# Altium integrated library ST Microcontroller 8-Bit.IntLib: 1326 symbols (part 6 of 45)
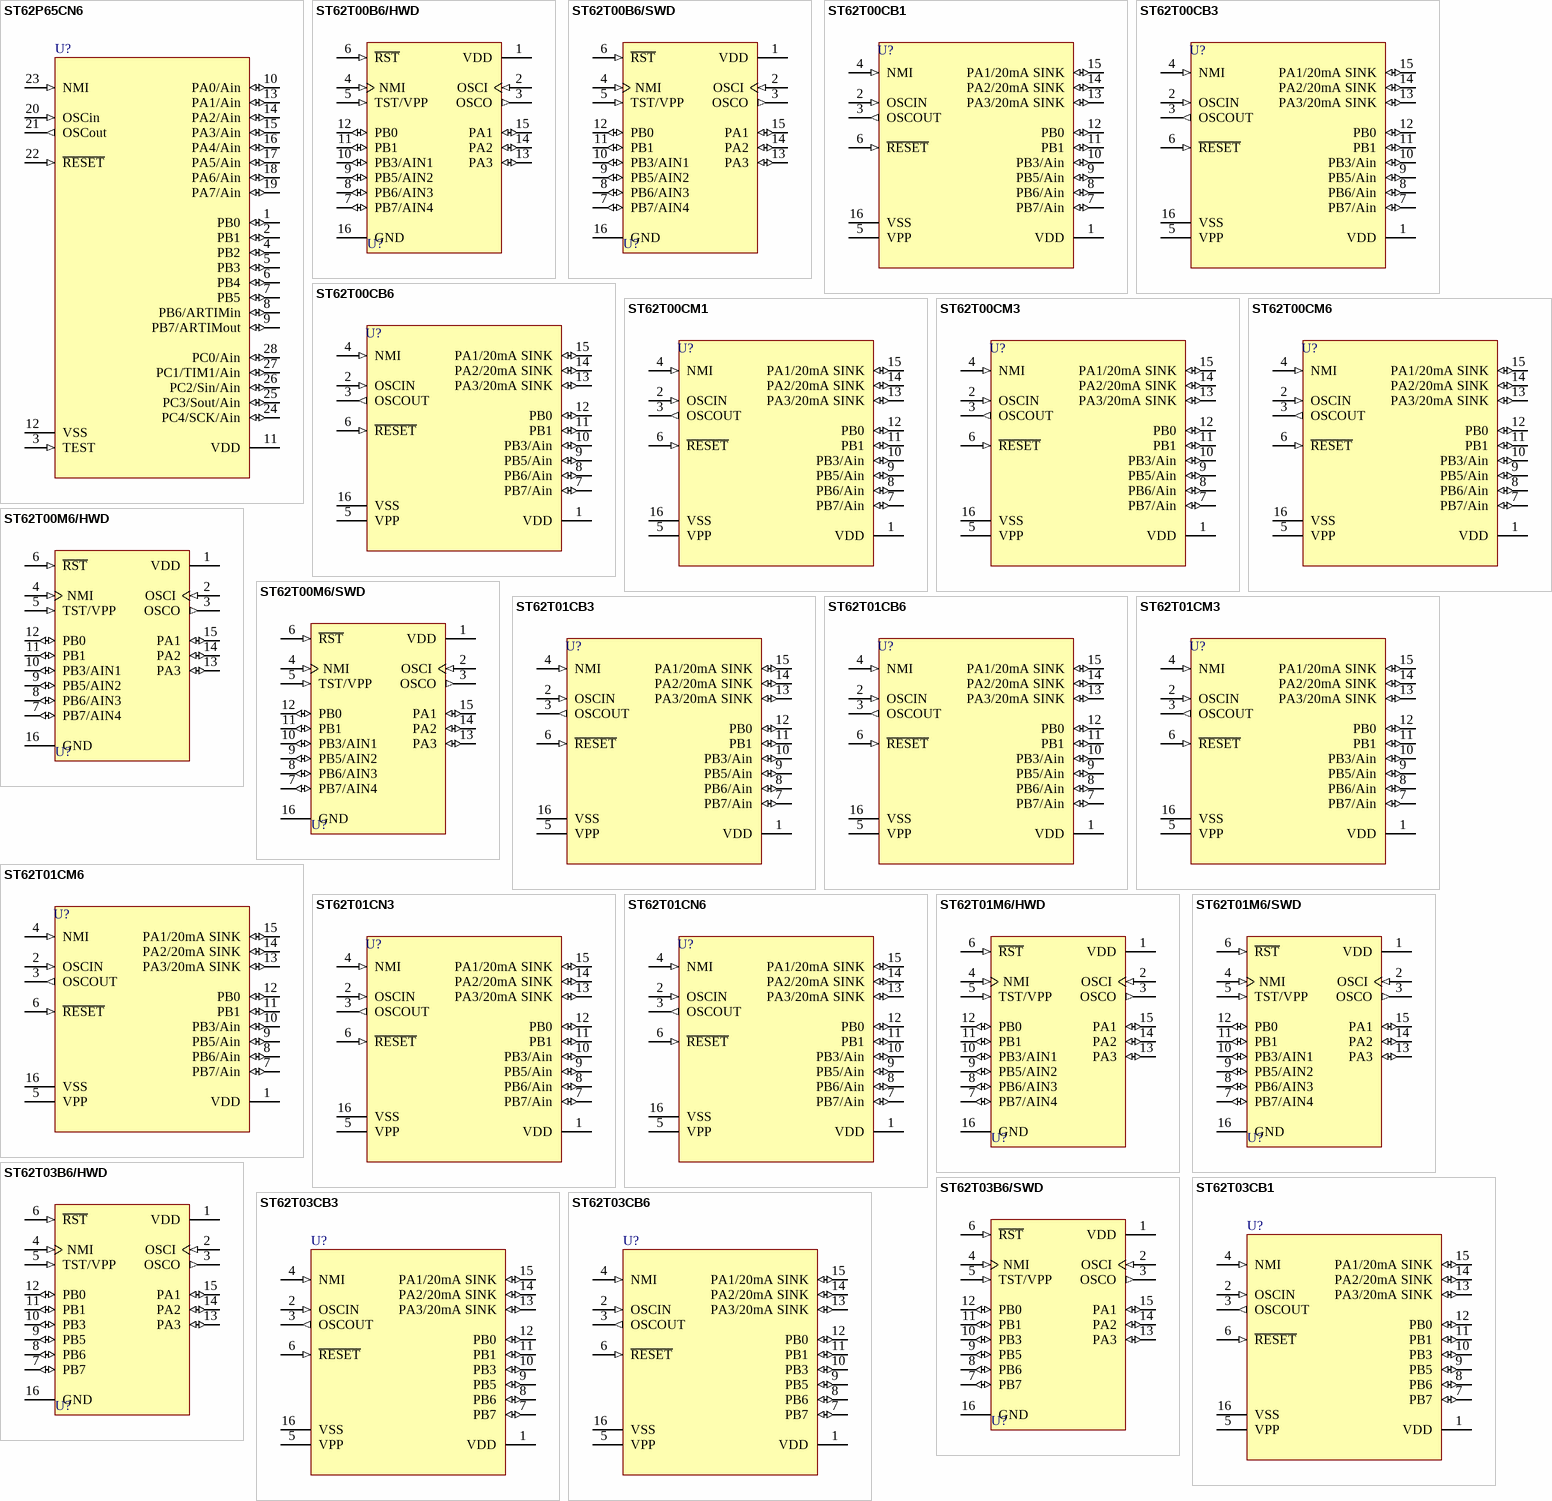
[diagram p172: symbols ST62P65CN6 to ST62T03CB6]

## ST62T00CB6
designator U?
8-Bit OTP MCU with A/D Converter, Two Timers, Oscillator Safeguard and Safe Reset, 16-Pin PDIP, Industrial; Published: 26-May-2004; LatestRevisionDate: 06-Jun-2005; LatestRevisionNote: Stylized 3D Model Added.; DatasheetVersion: rev3.3, Oct-2003; PackageVersion: Dec-2003; PackageReference: PDIP16; Publisher: Altium Limited; PackageDescription: DIP; 16 Leads; Row Spacing 7.62 mm; Pitch 2.54 mm; ComponentLink1Description: Manufacturer Link; ComponentLink1URL: http://www.st.com/; ComponentLink2Description: Datasheet; ComponentLink2URL: http://www.st.com/stonline/products/literature/ds/4563/st6200c.pdf
footprint PDIP16 (DIP; 16 Leads; Row Spacing 7.62 mm; Pitch 2.54 mm)
3D model PDIP16 (DIP; 16 Leads; Row Spacing 7.62 mm; Pitch 2.54 mm)
pins: 1 VDD (power), 2 OSCIN (in), 3 OSCOUT (out), 4 NMI (in), 5 VPP (power), 6 ~{RESET} (in), 7 PB7/Ain (io), 8 PB6/Ain (io), 9 PB5/Ain (io), 10 PB3/Ain (io), 11 PB1 (io), 12 PB0 (io), 13 PA3/20mA SINK (io), 14 PA2/20mA SINK (io), 15 PA1/20mA SINK (io), 16 VSS (power)

## ST62T00CM1
designator U?
8-Bit OTP MCU with A/D Converter, Two Timers, Oscillator Safeguard and Safe Reset, 16-Pin SOIC, Standard; Published: 26-May-2004; LatestRevisionDate: 13-Apr-2006; LatestRevisionNote: IPC-7351 Footprint Added.; DatasheetVersion: rev3.3, Oct-2003; PackageVersion: Apr-1998; PackageReference: SO16W; Publisher: Altium Limited; PackageDescription: 16-Pin Small Outline Integrated Circuit 1.27 mm Pitch; Code_JEDEC: MS-013-AA; Code_IPC: SOIC127P1030-16; ComponentLink1Description: Manufacturer Link; ComponentLink1URL: http://www.st.com/; ComponentLink2Description: Datasheet; ComponentLink2URL: http://www.st.com/stonline/products/literature/ds/4563/st6200c.pdf
footprint SO16W_N (SOIC, 16-Leads, Body 10.3x7.5mm, Pitch 1.27mm, IPC Medium Density)
footprint SO16W_L (SOIC, 16-Leads, Body 10.3x7.5mm, Pitch 1.27mm, IPC High Density)
footprint SO16W_M (SOIC, 16-Leads, Body 10.3x7.5mm, Pitch 1.27mm, IPC Low Density)
3D model SO16W (16-Pin Small Outline Integrated Circuit 1.27 mm Pitch)
pins: 1 VDD (power), 2 OSCIN (in), 3 OSCOUT (out), 4 NMI (in), 5 VPP (power), 6 ~{RESET} (in), 7 PB7/Ain (io), 8 PB6/Ain (io), 9 PB5/Ain (io), 10 PB3/Ain (io), 11 PB1 (io), 12 PB0 (io), 13 PA3/20mA SINK (io), 14 PA2/20mA SINK (io), 15 PA1/20mA SINK (io), 16 VSS (power)

## ST62T00CM3
designator U?
8-Bit OTP MCU with A/D Converter, Two Timers, Oscillator Safeguard and Safe Reset, 16-Pin SOIC, Automotive; Published: 26-May-2004; LatestRevisionDate: 13-Apr-2006; LatestRevisionNote: IPC-7351 Footprint Added.; DatasheetVersion: rev3.3, Oct-2003; PackageVersion: Apr-1998; PackageReference: SO16W; Publisher: Altium Limited; PackageDescription: 16-Pin Small Outline Integrated Circuit 1.27 mm Pitch; Code_JEDEC: MS-013-AA; Code_IPC: SOIC127P1030-16; ComponentLink1Description: Manufacturer Link; ComponentLink1URL: http://www.st.com/; ComponentLink2Description: Datasheet; ComponentLink2URL: http://www.st.com/stonline/products/literature/ds/4563/st6200c.pdf
footprint SO16W_N (SOIC, 16-Leads, Body 10.3x7.5mm, Pitch 1.27mm, IPC Medium Density)
footprint SO16W_L (SOIC, 16-Leads, Body 10.3x7.5mm, Pitch 1.27mm, IPC High Density)
footprint SO16W_M (SOIC, 16-Leads, Body 10.3x7.5mm, Pitch 1.27mm, IPC Low Density)
3D model SO16W (16-Pin Small Outline Integrated Circuit 1.27 mm Pitch)
pins: 1 VDD (power), 2 OSCIN (in), 3 OSCOUT (out), 4 NMI (in), 5 VPP (power), 6 ~{RESET} (in), 7 PB7/Ain (io), 8 PB6/Ain (io), 9 PB5/Ain (io), 10 PB3/Ain (io), 11 PB1 (io), 12 PB0 (io), 13 PA3/20mA SINK (io), 14 PA2/20mA SINK (io), 15 PA1/20mA SINK (io), 16 VSS (power)

## ST62T00CM6
designator U?
8-Bit OTP MCU with A/D Converter, Two Timers, Oscillator Safeguard and Safe Reset, 16-Pin SOIC, Industrial; Published: 26-May-2004; LatestRevisionDate: 13-Apr-2006; LatestRevisionNote: IPC-7351 Footprint Added.; DatasheetVersion: rev3.3, Oct-2003; PackageVersion: Apr-1998; PackageReference: SO16W; Publisher: Altium Limited; PackageDescription: 16-Pin Small Outline Integrated Circuit 1.27 mm Pitch; Code_JEDEC: MS-013-AA; Code_IPC: SOIC127P1030-16; ComponentLink1Description: Manufacturer Link; ComponentLink1URL: http://www.st.com/; ComponentLink2Description: Datasheet; ComponentLink2URL: http://www.st.com/stonline/products/literature/ds/4563/st6200c.pdf
footprint SO16W_N (SOIC, 16-Leads, Body 10.3x7.5mm, Pitch 1.27mm, IPC Medium Density)
footprint SO16W_L (SOIC, 16-Leads, Body 10.3x7.5mm, Pitch 1.27mm, IPC High Density)
footprint SO16W_M (SOIC, 16-Leads, Body 10.3x7.5mm, Pitch 1.27mm, IPC Low Density)
3D model SO16W (16-Pin Small Outline Integrated Circuit 1.27 mm Pitch)
pins: 1 VDD (power), 2 OSCIN (in), 3 OSCOUT (out), 4 NMI (in), 5 VPP (power), 6 ~{RESET} (in), 7 PB7/Ain (io), 8 PB6/Ain (io), 9 PB5/Ain (io), 10 PB3/Ain (io), 11 PB1 (io), 12 PB0 (io), 13 PA3/20mA SINK (io), 14 PA2/20mA SINK (io), 15 PA1/20mA SINK (io), 16 VSS (power)

## ST62T00M6/HWD
designator U?
8-Bit OTP MCU with A/D Converter; Published: 24-Aug-2001; LatestRevisionDate: 13-Apr-2006; LatestRevisionNote: IPC-7351 Footprint Added.; DatasheetVersion: Oct-1996; PackageVersion: Apr-1998; PackageReference: SO16W; Publisher: Altium Limited; PackageDescription: 16-Pin Small Outline Integrated Circuit 1.27 mm Pitch; Code_JEDEC: MS-013-AA; Code_IPC: SOIC127P1030-16; ComponentLink1Description: Manufacturer Link; ComponentLink1URL: http://www.st.com/
footprint SO16W_N (SOIC, 16-Leads, Body 10.3x7.5mm, Pitch 1.27mm, IPC Medium Density)
footprint SO16W_L (SOIC, 16-Leads, Body 10.3x7.5mm, Pitch 1.27mm, IPC High Density)
footprint SO16W_M (SOIC, 16-Leads, Body 10.3x7.5mm, Pitch 1.27mm, IPC Low Density)
3D model SO16W (16-Pin Small Outline Integrated Circuit 1.27 mm Pitch)
pins: 1 VDD (power), 2 OSCI (in), 3 OSCO (out), 4 NMI (in), 5 TST/VPP (in), 6 ~{RST} (in), 7 PB7/AIN4 (io), 8 PB6/AIN3 (io), 9 PB5/AIN2 (io), 10 PB3/AIN1 (io), 11 PB1 (io), 12 PB0 (io), 13 PA3 (io), 14 PA2 (io), 15 PA1 (io), 16 GND (power)

## ST62T00M6/SWD
designator U?
8-Bit OTP MCU with A/D Converter; Published: 24-Aug-2001; LatestRevisionDate: 13-Apr-2006; LatestRevisionNote: IPC-7351 Footprint Added.; DatasheetVersion: Oct-1996; PackageVersion: Apr-1998; PackageReference: SO16W; Publisher: Altium Limited; PackageDescription: 16-Pin Small Outline Integrated Circuit 1.27 mm Pitch; Code_JEDEC: MS-013-AA; Code_IPC: SOIC127P1030-16; ComponentLink1Description: Manufacturer Link; ComponentLink1URL: http://www.st.com/
footprint SO16W_N (SOIC, 16-Leads, Body 10.3x7.5mm, Pitch 1.27mm, IPC Medium Density)
footprint SO16W_L (SOIC, 16-Leads, Body 10.3x7.5mm, Pitch 1.27mm, IPC High Density)
footprint SO16W_M (SOIC, 16-Leads, Body 10.3x7.5mm, Pitch 1.27mm, IPC Low Density)
3D model SO16W (16-Pin Small Outline Integrated Circuit 1.27 mm Pitch)
pins: 1 VDD (power), 2 OSCI (in), 3 OSCO (out), 4 NMI (in), 5 TST/VPP (in), 6 ~{RST} (in), 7 PB7/AIN4 (io), 8 PB6/AIN3 (io), 9 PB5/AIN2 (io), 10 PB3/AIN1 (io), 11 PB1 (io), 12 PB0 (io), 13 PA3 (io), 14 PA2 (io), 15 PA1 (io), 16 GND (power)

## ST62T01CB3
designator U?
8-Bit OTP MCU with A/D Converter, Two Timers, Oscillator Safeguard and Safe Reset, 16-Pin PDIP, Automotive; Published: 26-May-2004; LatestRevisionDate: 06-Jun-2005; LatestRevisionNote: Stylized 3D Model Added.; DatasheetVersion: rev3.3, Oct-2003; PackageVersion: Dec-2003; PackageReference: PDIP16; Publisher: Altium Limited; PackageDescription: DIP; 16 Leads; Row Spacing 7.62 mm; Pitch 2.54 mm; ComponentLink1Description: Manufacturer Link; ComponentLink1URL: http://www.st.com/; ComponentLink2Description: Datasheet; ComponentLink2URL: http://www.st.com/stonline/products/literature/ds/4563/st6201c.pdf
footprint PDIP16 (DIP; 16 Leads; Row Spacing 7.62 mm; Pitch 2.54 mm)
3D model PDIP16 (DIP; 16 Leads; Row Spacing 7.62 mm; Pitch 2.54 mm)
pins: 1 VDD (power), 2 OSCIN (in), 3 OSCOUT (out), 4 NMI (in), 5 VPP (power), 6 ~{RESET} (in), 7 PB7/Ain (io), 8 PB6/Ain (io), 9 PB5/Ain (io), 10 PB3/Ain (io), 11 PB1 (io), 12 PB0 (io), 13 PA3/20mA SINK (io), 14 PA2/20mA SINK (io), 15 PA1/20mA SINK (io), 16 VSS (power)

## ST62T01CB6
designator U?
8-Bit OTP MCU with A/D Converter, Two Timers, Oscillator Safeguard and Safe Reset, 16-Pin PDIP, Industrial; Published: 26-May-2004; LatestRevisionDate: 06-Jun-2005; LatestRevisionNote: Stylized 3D Model Added.; DatasheetVersion: rev3.3, Oct-2003; PackageVersion: Dec-2003; PackageReference: PDIP16; Publisher: Altium Limited; PackageDescription: DIP; 16 Leads; Row Spacing 7.62 mm; Pitch 2.54 mm; ComponentLink1Description: Manufacturer Link; ComponentLink1URL: http://www.st.com/; ComponentLink2Description: Datasheet; ComponentLink2URL: http://www.st.com/stonline/products/literature/ds/4563/st6201c.pdf
footprint PDIP16 (DIP; 16 Leads; Row Spacing 7.62 mm; Pitch 2.54 mm)
3D model PDIP16 (DIP; 16 Leads; Row Spacing 7.62 mm; Pitch 2.54 mm)
pins: 1 VDD (power), 2 OSCIN (in), 3 OSCOUT (out), 4 NMI (in), 5 VPP (power), 6 ~{RESET} (in), 7 PB7/Ain (io), 8 PB6/Ain (io), 9 PB5/Ain (io), 10 PB3/Ain (io), 11 PB1 (io), 12 PB0 (io), 13 PA3/20mA SINK (io), 14 PA2/20mA SINK (io), 15 PA1/20mA SINK (io), 16 VSS (power)

## ST62T01CM3
designator U?
8-Bit OTP MCU with A/D Converter, Two Timers, Oscillator Safeguard and Safe Reset, 16-Pin SOIC, Automotive; Published: 26-May-2004; LatestRevisionDate: 13-Apr-2006; LatestRevisionNote: IPC-7351 Footprint Added.; DatasheetVersion: rev3.3, Oct-2003; PackageVersion: Apr-1998; PackageReference: SO16W; Publisher: Altium Limited; PackageDescription: 16-Pin Small Outline Integrated Circuit 1.27 mm Pitch; Code_JEDEC: MS-013-AA; Code_IPC: SOIC127P1030-16; ComponentLink1Description: Manufacturer Link; ComponentLink1URL: http://www.st.com/; ComponentLink2Description: Datasheet; ComponentLink2URL: http://www.st.com/stonline/products/literature/ds/4563/st6201c.pdf
footprint SO16W_N (SOIC, 16-Leads, Body 10.3x7.5mm, Pitch 1.27mm, IPC Medium Density)
footprint SO16W_L (SOIC, 16-Leads, Body 10.3x7.5mm, Pitch 1.27mm, IPC High Density)
footprint SO16W_M (SOIC, 16-Leads, Body 10.3x7.5mm, Pitch 1.27mm, IPC Low Density)
3D model SO16W (16-Pin Small Outline Integrated Circuit 1.27 mm Pitch)
pins: 1 VDD (power), 2 OSCIN (in), 3 OSCOUT (out), 4 NMI (in), 5 VPP (power), 6 ~{RESET} (in), 7 PB7/Ain (io), 8 PB6/Ain (io), 9 PB5/Ain (io), 10 PB3/Ain (io), 11 PB1 (io), 12 PB0 (io), 13 PA3/20mA SINK (io), 14 PA2/20mA SINK (io), 15 PA1/20mA SINK (io), 16 VSS (power)

## ST62T01CM6
designator U?
8-Bit OTP MCU with A/D Converter, Two Timers, Oscillator Safeguard and Safe Reset, 16-Pin SOIC, Industrial; Published: 26-May-2004; LatestRevisionDate: 13-Apr-2006; LatestRevisionNote: IPC-7351 Footprint Added.; DatasheetVersion: rev3.3, Oct-2003; PackageVersion: Apr-1998; PackageReference: SO16W; Publisher: Altium Limited; PackageDescription: 16-Pin Small Outline Integrated Circuit 1.27 mm Pitch; Code_JEDEC: MS-013-AA; Code_IPC: SOIC127P1030-16; ComponentLink1Description: Manufacturer Link; ComponentLink1URL: http://www.st.com/; ComponentLink2Description: Datasheet; ComponentLink2URL: http://www.st.com/stonline/products/literature/ds/4563/st6201c.pdf
footprint SO16W_N (SOIC, 16-Leads, Body 10.3x7.5mm, Pitch 1.27mm, IPC Medium Density)
footprint SO16W_L (SOIC, 16-Leads, Body 10.3x7.5mm, Pitch 1.27mm, IPC High Density)
footprint SO16W_M (SOIC, 16-Leads, Body 10.3x7.5mm, Pitch 1.27mm, IPC Low Density)
3D model SO16W (16-Pin Small Outline Integrated Circuit 1.27 mm Pitch)
pins: 1 VDD (power), 2 OSCIN (in), 3 OSCOUT (out), 4 NMI (in), 5 VPP (power), 6 ~{RESET} (in), 7 PB7/Ain (io), 8 PB6/Ain (io), 9 PB5/Ain (io), 10 PB3/Ain (io), 11 PB1 (io), 12 PB0 (io), 13 PA3/20mA SINK (io), 14 PA2/20mA SINK (io), 15 PA1/20mA SINK (io), 16 VSS (power)

## ST62T01CN3
designator U?
8-Bit OTP MCU with A/D Converter, Two Timers, Oscillator Safeguard and Safe Reset, 16-Pin SSOP, Automotive; Published: 26-May-2004; LatestRevisionDate: 06-Jun-2005; LatestRevisionNote: Stylized 3D Model Added.; DatasheetVersion: rev3.3, Oct-2003; PackageVersion: Oct-2003; PackageReference: SSOP16; Publisher: Altium Limited; PackageDescription: SSOP, Plastic; 16 Leads; Body Width 5.3 mm; Pitch 0.65 mm; ComponentLink1Description: Manufacturer Link; ComponentLink1URL: http://www.st.com/; ComponentLink2Description: Datasheet; ComponentLink2URL: http://www.st.com/stonline/products/literature/ds/4563/st6201c.pdf
footprint SSOP16 (SSOP, Plastic; 16 Leads; Body Width 5.3 mm; Pitch 0.65 mm)
3D model SSOP16 (SSOP, Plastic; 16 Leads; Body Width 5.3 mm; Pitch 0.65 mm)
pins: 1 VDD (power), 2 OSCIN (in), 3 OSCOUT (out), 4 NMI (in), 5 VPP (power), 6 ~{RESET} (in), 7 PB7/Ain (io), 8 PB6/Ain (io), 9 PB5/Ain (io), 10 PB3/Ain (io), 11 PB1 (io), 12 PB0 (io), 13 PA3/20mA SINK (io), 14 PA2/20mA SINK (io), 15 PA1/20mA SINK (io), 16 VSS (power)

## ST62T01CN6
designator U?
8-Bit OTP MCU with A/D Converter, Two Timers, Oscillator Safeguard and Safe Reset, 16-Pin SSOP, Industrial; Published: 26-May-2004; LatestRevisionDate: 06-Jun-2005; LatestRevisionNote: Stylized 3D Model Added.; DatasheetVersion: rev3.3, Oct-2003; PackageVersion: Oct-2003; PackageReference: SSOP16; Publisher: Altium Limited; PackageDescription: SSOP, Plastic; 16 Leads; Body Width 5.3 mm; Pitch 0.65 mm; ComponentLink1Description: Manufacturer Link; ComponentLink1URL: http://www.st.com/; ComponentLink2Description: Datasheet; ComponentLink2URL: http://www.st.com/stonline/products/literature/ds/4563/st6201c.pdf
footprint SSOP16 (SSOP, Plastic; 16 Leads; Body Width 5.3 mm; Pitch 0.65 mm)
3D model SSOP16 (SSOP, Plastic; 16 Leads; Body Width 5.3 mm; Pitch 0.65 mm)
pins: 1 VDD (power), 2 OSCIN (in), 3 OSCOUT (out), 4 NMI (in), 5 VPP (power), 6 ~{RESET} (in), 7 PB7/Ain (io), 8 PB6/Ain (io), 9 PB5/Ain (io), 10 PB3/Ain (io), 11 PB1 (io), 12 PB0 (io), 13 PA3/20mA SINK (io), 14 PA2/20mA SINK (io), 15 PA1/20mA SINK (io), 16 VSS (power)

## ST62T01M6/HWD
designator U?
8-Bit OTP MCU with A/D Converter; Published: 24-Aug-2001; LatestRevisionDate: 13-Apr-2006; LatestRevisionNote: IPC-7351 Footprint Added.; DatasheetVersion: Oct-1996; PackageVersion: Apr-1998; PackageReference: SO16W; Publisher: Altium Limited; PackageDescription: 16-Pin Small Outline Integrated Circuit 1.27 mm Pitch; Code_JEDEC: MS-013-AA; Code_IPC: SOIC127P1030-16; ComponentLink1Description: Manufacturer Link; ComponentLink1URL: http://www.st.com/
footprint SO16W_N (SOIC, 16-Leads, Body 10.3x7.5mm, Pitch 1.27mm, IPC Medium Density)
footprint SO16W_L (SOIC, 16-Leads, Body 10.3x7.5mm, Pitch 1.27mm, IPC High Density)
footprint SO16W_M (SOIC, 16-Leads, Body 10.3x7.5mm, Pitch 1.27mm, IPC Low Density)
3D model SO16W (16-Pin Small Outline Integrated Circuit 1.27 mm Pitch)
pins: 1 VDD (power), 2 OSCI (in), 3 OSCO (out), 4 NMI (in), 5 TST/VPP (in), 6 ~{RST} (in), 7 PB7/AIN4 (io), 8 PB6/AIN3 (io), 9 PB5/AIN2 (io), 10 PB3/AIN1 (io), 11 PB1 (io), 12 PB0 (io), 13 PA3 (io), 14 PA2 (io), 15 PA1 (io), 16 GND (power)

## ST62T01M6/SWD
designator U?
8-Bit OTP MCU with A/D Converter; Published: 24-Aug-2001; LatestRevisionDate: 13-Apr-2006; LatestRevisionNote: IPC-7351 Footprint Added.; DatasheetVersion: Oct-1996; PackageVersion: Apr-1998; PackageReference: SO16W; Publisher: Altium Limited; PackageDescription: 16-Pin Small Outline Integrated Circuit 1.27 mm Pitch; Code_JEDEC: MS-013-AA; Code_IPC: SOIC127P1030-16; ComponentLink1Description: Manufacturer Link; ComponentLink1URL: http://www.st.com/
footprint SO16W_N (SOIC, 16-Leads, Body 10.3x7.5mm, Pitch 1.27mm, IPC Medium Density)
footprint SO16W_L (SOIC, 16-Leads, Body 10.3x7.5mm, Pitch 1.27mm, IPC High Density)
footprint SO16W_M (SOIC, 16-Leads, Body 10.3x7.5mm, Pitch 1.27mm, IPC Low Density)
3D model SO16W (16-Pin Small Outline Integrated Circuit 1.27 mm Pitch)
pins: 1 VDD (power), 2 OSCI (in), 3 OSCO (out), 4 NMI (in), 5 TST/VPP (in), 6 ~{RST} (in), 7 PB7/AIN4 (io), 8 PB6/AIN3 (io), 9 PB5/AIN2 (io), 10 PB3/AIN1 (io), 11 PB1 (io), 12 PB0 (io), 13 PA3 (io), 14 PA2 (io), 15 PA1 (io), 16 GND (power)

## ST62T03B6/HWD
designator U?
8-Bit OTP MCU; Published: 24-Aug-2001; LatestRevisionDate: 06-Jun-2005; LatestRevisionNote: Stylized 3D Model Added.; DatasheetVersion: Oct-1996; PackageVersion: Apr-1996; PackageReference: DIP16; Publisher: Altium Limited; PackageDescription: DIP; 16 Leads; Row Spacing 7.62 mm; Pitch 2.54 mm; ComponentLink1Description: Manufacturer Link; ComponentLink1URL: http://www.st.com/
footprint DIP16 (DIP; 16 Leads; Row Spacing 7.62 mm; Pitch 2.54 mm)
3D model DIP16 (DIP; 16 Leads; Row Spacing 7.62 mm; Pitch 2.54 mm)
pins: 1 VDD (power), 2 OSCI (in), 3 OSCO (out), 4 NMI (in), 5 TST/VPP (in), 6 ~{RST} (in), 7 PB7 (io), 8 PB6 (io), 9 PB5 (io), 10 PB3 (io), 11 PB1 (io), 12 PB0 (io), 13 PA3 (io), 14 PA2 (io), 15 PA1 (io), 16 GND (power)

## ST62T03B6/SWD
designator U?
8-Bit OTP MCU; Published: 24-Aug-2001; LatestRevisionDate: 06-Jun-2005; LatestRevisionNote: Stylized 3D Model Added.; DatasheetVersion: Oct-1996; PackageVersion: Apr-1996; PackageReference: DIP16; Publisher: Altium Limited; PackageDescription: DIP; 16 Leads; Row Spacing 7.62 mm; Pitch 2.54 mm; ComponentLink1Description: Manufacturer Link; ComponentLink1URL: http://www.st.com/
footprint DIP16 (DIP; 16 Leads; Row Spacing 7.62 mm; Pitch 2.54 mm)
3D model DIP16 (DIP; 16 Leads; Row Spacing 7.62 mm; Pitch 2.54 mm)
pins: 1 VDD (power), 2 OSCI (in), 3 OSCO (out), 4 NMI (in), 5 TST/VPP (in), 6 ~{RST} (in), 7 PB7 (io), 8 PB6 (io), 9 PB5 (io), 10 PB3 (io), 11 PB1 (io), 12 PB0 (io), 13 PA3 (io), 14 PA2 (io), 15 PA1 (io), 16 GND (power)

## ST62T03CB1
designator U?
8-Bit OTP MCU with A/D Converter, Two Timers, Oscillator Safeguard and Safe Reset, 16-Pin PDIP, Standard; Published: 26-May-2004; LatestRevisionDate: 06-Jun-2005; LatestRevisionNote: Stylized 3D Model Added.; DatasheetVersion: rev3.3, Oct-2003; PackageVersion: Dec-2003; PackageReference: PDIP16; Publisher: Altium Limited; PackageDescription: DIP; 16 Leads; Row Spacing 7.62 mm; Pitch 2.54 mm; ComponentLink1Description: Manufacturer Link; ComponentLink1URL: http://www.st.com/; ComponentLink2Description: Datasheet; ComponentLink2URL: http://www.st.com/stonline/products/literature/ds/4563/st6203c.pdf
footprint PDIP16 (DIP; 16 Leads; Row Spacing 7.62 mm; Pitch 2.54 mm)
3D model PDIP16 (DIP; 16 Leads; Row Spacing 7.62 mm; Pitch 2.54 mm)
pins: 1 VDD (power), 2 OSCIN (in), 3 OSCOUT (out), 4 NMI (in), 5 VPP (power), 6 ~{RESET} (in), 7 PB7 (io), 8 PB6 (io), 9 PB5 (io), 10 PB3 (io), 11 PB1 (io), 12 PB0 (io), 13 PA3/20mA SINK (io), 14 PA2/20mA SINK (io), 15 PA1/20mA SINK (io), 16 VSS (power)

## ST62T03CB3
designator U?
8-Bit OTP MCU with A/D Converter, Two Timers, Oscillator Safeguard and Safe Reset, 16-Pin PDIP, Automotive; Published: 26-May-2004; LatestRevisionDate: 06-Jun-2005; LatestRevisionNote: Stylized 3D Model Added.; DatasheetVersion: rev3.3, Oct-2003; PackageVersion: Dec-2003; PackageReference: PDIP16; Publisher: Altium Limited; PackageDescription: DIP; 16 Leads; Row Spacing 7.62 mm; Pitch 2.54 mm; ComponentLink1Description: Manufacturer Link; ComponentLink1URL: http://www.st.com/; ComponentLink2Description: Datasheet; ComponentLink2URL: http://www.st.com/stonline/products/literature/ds/4563/st6203c.pdf
footprint PDIP16 (DIP; 16 Leads; Row Spacing 7.62 mm; Pitch 2.54 mm)
3D model PDIP16 (DIP; 16 Leads; Row Spacing 7.62 mm; Pitch 2.54 mm)
pins: 1 VDD (power), 2 OSCIN (in), 3 OSCOUT (out), 4 NMI (in), 5 VPP (power), 6 ~{RESET} (in), 7 PB7 (io), 8 PB6 (io), 9 PB5 (io), 10 PB3 (io), 11 PB1 (io), 12 PB0 (io), 13 PA3/20mA SINK (io), 14 PA2/20mA SINK (io), 15 PA1/20mA SINK (io), 16 VSS (power)

## ST62T03CB6
designator U?
8-Bit OTP MCU with A/D Converter, Two Timers, Oscillator Safeguard and Safe Reset, 16-Pin PDIP, Industrial; Published: 26-May-2004; LatestRevisionDate: 06-Jun-2005; LatestRevisionNote: Stylized 3D Model Added.; DatasheetVersion: rev3.3, Oct-2003; PackageVersion: Dec-2003; PackageReference: PDIP16; Publisher: Altium Limited; PackageDescription: DIP; 16 Leads; Row Spacing 7.62 mm; Pitch 2.54 mm; ComponentLink1Description: Manufacturer Link; ComponentLink1URL: http://www.st.com/; ComponentLink2Description: Datasheet; ComponentLink2URL: http://www.st.com/stonline/products/literature/ds/4563/st6203c.pdf
footprint PDIP16 (DIP; 16 Leads; Row Spacing 7.62 mm; Pitch 2.54 mm)
3D model PDIP16 (DIP; 16 Leads; Row Spacing 7.62 mm; Pitch 2.54 mm)
pins: 1 VDD (power), 2 OSCIN (in), 3 OSCOUT (out), 4 NMI (in), 5 VPP (power), 6 ~{RESET} (in), 7 PB7 (io), 8 PB6 (io), 9 PB5 (io), 10 PB3 (io), 11 PB1 (io), 12 PB0 (io), 13 PA3/20mA SINK (io), 14 PA2/20mA SINK (io), 15 PA1/20mA SINK (io), 16 VSS (power)

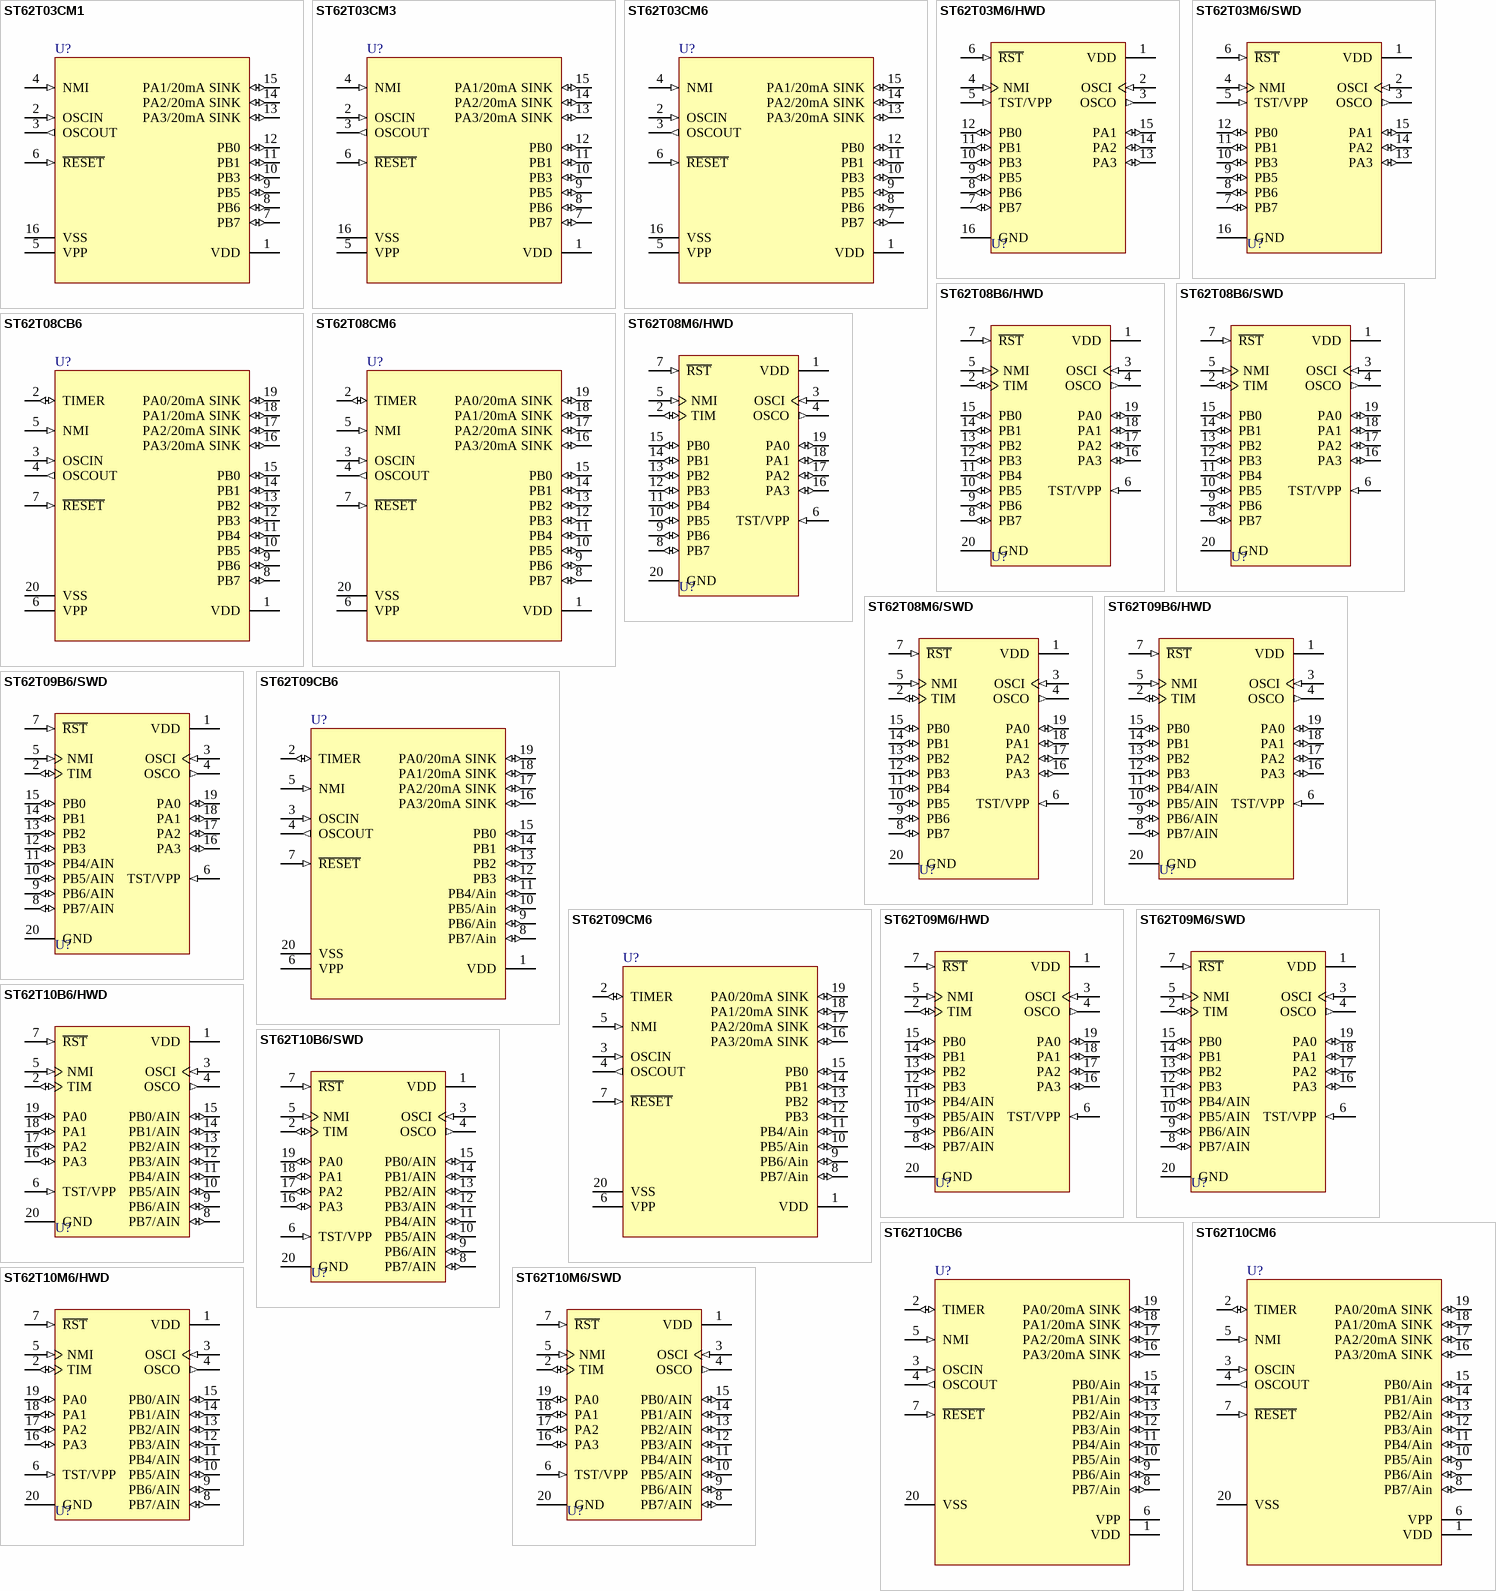
[diagram p14: symbols ST62T03CM1 to ST62T10M6/SWD]

## ST62T03CM1
designator U?
8-Bit OTP MCU with A/D Converter, Two Timers, Oscillator Safeguard and Safe Reset, 16-Pin SOIC, Standard; Published: 26-May-2004; LatestRevisionDate: 13-Apr-2006; LatestRevisionNote: IPC-7351 Footprint Added.; DatasheetVersion: rev3.3, Oct-2003; PackageVersion: Apr-1998; PackageReference: SO16W; Publisher: Altium Limited; PackageDescription: 16-Pin Small Outline Integrated Circuit 1.27 mm Pitch; Code_JEDEC: MS-013-AA; Code_IPC: SOIC127P1030-16; ComponentLink1Description: Manufacturer Link; ComponentLink1URL: http://www.st.com/; ComponentLink2Description: Datasheet; ComponentLink2URL: http://www.st.com/stonline/products/literature/ds/4563/st6203c.pdf
footprint SO16W_N (SOIC, 16-Leads, Body 10.3x7.5mm, Pitch 1.27mm, IPC Medium Density)
footprint SO16W_L (SOIC, 16-Leads, Body 10.3x7.5mm, Pitch 1.27mm, IPC High Density)
footprint SO16W_M (SOIC, 16-Leads, Body 10.3x7.5mm, Pitch 1.27mm, IPC Low Density)
3D model SO16W (16-Pin Small Outline Integrated Circuit 1.27 mm Pitch)
pins: 1 VDD (power), 2 OSCIN (in), 3 OSCOUT (out), 4 NMI (in), 5 VPP (power), 6 ~{RESET} (in), 7 PB7 (io), 8 PB6 (io), 9 PB5 (io), 10 PB3 (io), 11 PB1 (io), 12 PB0 (io), 13 PA3/20mA SINK (io), 14 PA2/20mA SINK (io), 15 PA1/20mA SINK (io), 16 VSS (power)

## ST62T03CM3
designator U?
8-Bit OTP MCU with A/D Converter, Two Timers, Oscillator Safeguard and Safe Reset, 16-Pin SOIC, Automotive; Published: 26-May-2004; LatestRevisionDate: 13-Apr-2006; LatestRevisionNote: IPC-7351 Footprint Added.; DatasheetVersion: rev3.3, Oct-2003; PackageVersion: Apr-1998; PackageReference: SO16W; Publisher: Altium Limited; PackageDescription: 16-Pin Small Outline Integrated Circuit 1.27 mm Pitch; Code_JEDEC: MS-013-AA; Code_IPC: SOIC127P1030-16; ComponentLink1Description: Manufacturer Link; ComponentLink1URL: http://www.st.com/; ComponentLink2Description: Datasheet; ComponentLink2URL: http://www.st.com/stonline/products/literature/ds/4563/st6203c.pdf
footprint SO16W_N (SOIC, 16-Leads, Body 10.3x7.5mm, Pitch 1.27mm, IPC Medium Density)
footprint SO16W_L (SOIC, 16-Leads, Body 10.3x7.5mm, Pitch 1.27mm, IPC High Density)
footprint SO16W_M (SOIC, 16-Leads, Body 10.3x7.5mm, Pitch 1.27mm, IPC Low Density)
3D model SO16W (16-Pin Small Outline Integrated Circuit 1.27 mm Pitch)
pins: 1 VDD (power), 2 OSCIN (in), 3 OSCOUT (out), 4 NMI (in), 5 VPP (power), 6 ~{RESET} (in), 7 PB7 (io), 8 PB6 (io), 9 PB5 (io), 10 PB3 (io), 11 PB1 (io), 12 PB0 (io), 13 PA3/20mA SINK (io), 14 PA2/20mA SINK (io), 15 PA1/20mA SINK (io), 16 VSS (power)

## ST62T03CM6
designator U?
8-Bit OTP MCU with A/D Converter, Two Timers, Oscillator Safeguard and Safe Reset, 16-Pin SOIC, Industrial; Published: 26-May-2004; LatestRevisionDate: 13-Apr-2006; LatestRevisionNote: IPC-7351 Footprint Added.; DatasheetVersion: rev3.3, Oct-2003; PackageVersion: Apr-1998; PackageReference: SO16W; Publisher: Altium Limited; PackageDescription: 16-Pin Small Outline Integrated Circuit 1.27 mm Pitch; Code_JEDEC: MS-013-AA; Code_IPC: SOIC127P1030-16; ComponentLink1Description: Manufacturer Link; ComponentLink1URL: http://www.st.com/; ComponentLink2Description: Datasheet; ComponentLink2URL: http://www.st.com/stonline/products/literature/ds/4563/st6203c.pdf
footprint SO16W_N (SOIC, 16-Leads, Body 10.3x7.5mm, Pitch 1.27mm, IPC Medium Density)
footprint SO16W_L (SOIC, 16-Leads, Body 10.3x7.5mm, Pitch 1.27mm, IPC High Density)
footprint SO16W_M (SOIC, 16-Leads, Body 10.3x7.5mm, Pitch 1.27mm, IPC Low Density)
3D model SO16W (16-Pin Small Outline Integrated Circuit 1.27 mm Pitch)
pins: 1 VDD (power), 2 OSCIN (in), 3 OSCOUT (out), 4 NMI (in), 5 VPP (power), 6 ~{RESET} (in), 7 PB7 (io), 8 PB6 (io), 9 PB5 (io), 10 PB3 (io), 11 PB1 (io), 12 PB0 (io), 13 PA3/20mA SINK (io), 14 PA2/20mA SINK (io), 15 PA1/20mA SINK (io), 16 VSS (power)

## ST62T03M6/HWD
designator U?
8-Bit OTP MCU; Published: 24-Aug-2001; LatestRevisionDate: 13-Apr-2006; LatestRevisionNote: IPC-7351 Footprint Added.; DatasheetVersion: Oct-1996; PackageVersion: Apr-1998; PackageReference: SO16W; Publisher: Altium Limited; PackageDescription: 16-Pin Small Outline Integrated Circuit 1.27 mm Pitch; Code_JEDEC: MS-013-AA; Code_IPC: SOIC127P1030-16; ComponentLink1Description: Manufacturer Link; ComponentLink1URL: http://www.st.com/
footprint SO16W_N (SOIC, 16-Leads, Body 10.3x7.5mm, Pitch 1.27mm, IPC Medium Density)
footprint SO16W_L (SOIC, 16-Leads, Body 10.3x7.5mm, Pitch 1.27mm, IPC High Density)
footprint SO16W_M (SOIC, 16-Leads, Body 10.3x7.5mm, Pitch 1.27mm, IPC Low Density)
3D model SO16W (16-Pin Small Outline Integrated Circuit 1.27 mm Pitch)
pins: 1 VDD (power), 2 OSCI (in), 3 OSCO (out), 4 NMI (in), 5 TST/VPP (in), 6 ~{RST} (in), 7 PB7 (io), 8 PB6 (io), 9 PB5 (io), 10 PB3 (io), 11 PB1 (io), 12 PB0 (io), 13 PA3 (io), 14 PA2 (io), 15 PA1 (io), 16 GND (power)

## ST62T03M6/SWD
designator U?
8-Bit OTP MCU; Published: 24-Aug-2001; LatestRevisionDate: 13-Apr-2006; LatestRevisionNote: IPC-7351 Footprint Added.; DatasheetVersion: Oct-1996; PackageVersion: Apr-1998; PackageReference: SO16W; Publisher: Altium Limited; PackageDescription: 16-Pin Small Outline Integrated Circuit 1.27 mm Pitch; Code_JEDEC: MS-013-AA; Code_IPC: SOIC127P1030-16; ComponentLink1Description: Manufacturer Link; ComponentLink1URL: http://www.st.com/
footprint SO16W_N (SOIC, 16-Leads, Body 10.3x7.5mm, Pitch 1.27mm, IPC Medium Density)
footprint SO16W_L (SOIC, 16-Leads, Body 10.3x7.5mm, Pitch 1.27mm, IPC High Density)
footprint SO16W_M (SOIC, 16-Leads, Body 10.3x7.5mm, Pitch 1.27mm, IPC Low Density)
3D model SO16W (16-Pin Small Outline Integrated Circuit 1.27 mm Pitch)
pins: 1 VDD (power), 2 OSCI (in), 3 OSCO (out), 4 NMI (in), 5 TST/VPP (in), 6 ~{RST} (in), 7 PB7 (io), 8 PB6 (io), 9 PB5 (io), 10 PB3 (io), 11 PB1 (io), 12 PB0 (io), 13 PA3 (io), 14 PA2 (io), 15 PA1 (io), 16 GND (power)

## ST62T08B6/HWD
designator U?
8-Bit OTP MCU; Published: 24-Aug-2001; LatestRevisionDate: 06-Jun-2005; LatestRevisionNote: Stylized 3D Model Added.; DatasheetVersion: Oct-1996; PackageVersion: Jun-1998; PackageReference: DIP20; Publisher: Altium Limited; PackageDescription: DIP; 20 Leads; Row Spacing 7.62 mm; Pitch 2.54 mm; Code_JEDEC: MS-015-AE; ComponentLink1Description: Manufacturer Link; ComponentLink1URL: http://www.st.com/
footprint DIP20 (DIP; 20 Leads; Row Spacing 7.62 mm; Pitch 2.54 mm)
3D model DIP20 (DIP; 20 Leads; Row Spacing 7.62 mm; Pitch 2.54 mm)
pins: 1 VDD (power), 2 TIM (io), 3 OSCI (in), 4 OSCO (out), 5 NMI (in), 6 TST/VPP (in), 7 ~{RST} (in), 8 PB7 (io), 9 PB6 (io), 10 PB5 (io), 11 PB4 (io), 12 PB3 (io), 13 PB2 (io), 14 PB1 (io), 15 PB0 (io), 16 PA3 (io), 17 PA2 (io), 18 PA1 (io), 19 PA0 (io), 20 GND (power)

## ST62T08B6/SWD
designator U?
8-Bit OTP MCU; Published: 24-Aug-2001; LatestRevisionDate: 06-Jun-2005; LatestRevisionNote: Stylized 3D Model Added.; DatasheetVersion: Oct-1996; PackageVersion: Jun-1998; PackageReference: DIP20; Publisher: Altium Limited; PackageDescription: DIP; 20 Leads; Row Spacing 7.62 mm; Pitch 2.54 mm; Code_JEDEC: MS-015-AE; ComponentLink1Description: Manufacturer Link; ComponentLink1URL: http://www.st.com/
footprint DIP20 (DIP; 20 Leads; Row Spacing 7.62 mm; Pitch 2.54 mm)
3D model DIP20 (DIP; 20 Leads; Row Spacing 7.62 mm; Pitch 2.54 mm)
pins: 1 VDD (power), 2 TIM (io), 3 OSCI (in), 4 OSCO (out), 5 NMI (in), 6 TST/VPP (in), 7 ~{RST} (in), 8 PB7 (io), 9 PB6 (io), 10 PB5 (io), 11 PB4 (io), 12 PB3 (io), 13 PB2 (io), 14 PB1 (io), 15 PB0 (io), 16 PA3 (io), 17 PA2 (io), 18 PA1 (io), 19 PA0 (io), 20 GND (power)

## ST62T08CB6
designator U?
8-Bit OTP MCU with A/D Converter, Two Timers, Oscillator Safeguard and Safe Reset, 20-Pin PDIP, Industrial; Published: 26-May-2004; LatestRevisionDate: 06-Jun-2005; LatestRevisionNote: Stylized 3D Model Added.; DatasheetVersion: rev3.3, Oct-2003; PackageVersion: Jul-2003; PackageReference: PDIP20; Publisher: Altium Limited; PackageDescription: DIP; 20 Leads; Row Spacing 7.62 mm; Pitch 2.54 mm; Code_JEDEC: MS-001-AD; ComponentLink1Description: Manufacturer Link; ComponentLink1URL: http://www.st.com/; ComponentLink2Description: Datasheet; ComponentLink2URL: http://www.st.com/stonline/products/literature/ds/2349/st6208c.pdf
footprint PDIP20 (DIP; 20 Leads; Row Spacing 7.62 mm; Pitch 2.54 mm)
3D model PDIP20 (DIP; 20 Leads; Row Spacing 7.62 mm; Pitch 2.54 mm)
pins: 1 VDD (power), 2 TIMER (io), 3 OSCIN (in), 4 OSCOUT (out), 5 NMI (in), 6 VPP (power), 7 ~{RESET} (in), 8 PB7 (io), 9 PB6 (io), 10 PB5 (io), 11 PB4 (io), 12 PB3 (io), 13 PB2 (io), 14 PB1 (io), 15 PB0 (io), 16 PA3/20mA SINK (io), 17 PA2/20mA SINK (io), 18 PA1/20mA SINK (io), 19 PA0/20mA SINK (io), 20 VSS (power)

## ST62T08CM6
designator U?
8-Bit OTP MCU with A/D Converter, Two Timers, Oscillator Safeguard and Safe Reset, 20-Pin SOIC, Industrial; Published: 26-May-2004; LatestRevisionDate: 13-Apr-2006; LatestRevisionNote: IPC-7351 Footprint Added.; DatasheetVersion: rev3.3, Oct-2003; PackageVersion: Jul-2001; PackageReference: SO20; Publisher: Altium Limited; PackageDescription: 20-Pin Plastic Small Outline Integrated Circuit 1.27 mm Pitch; Code_JEDEC: MS-013-AC; Code_IPC: SOIC127P1030-20; ComponentLink1Description: Manufacturer Link; ComponentLink1URL: http://www.st.com/; ComponentLink2Description: Datasheet; ComponentLink2URL: http://www.st.com/stonline/products/literature/ds/2349/st6208c.pdf
footprint SO20_N (SOIC, 20-Leads, Body 12.8x7.5mm, Pitch 1.27mm, IPC Medium Density)
footprint SO20_L (SOIC, 20-Leads, Body 12.8x7.5mm, Pitch 1.27mm, IPC High Density)
footprint SO20_M (SOIC, 20-Leads, Body 12.8x7.5mm, Pitch 1.27mm, IPC Low Density)
3D model SO20 (20-Pin Plastic Small Outline Integrated Circuit 1.27 mm Pitch)
pins: 1 VDD (power), 2 TIMER (io), 3 OSCIN (in), 4 OSCOUT (out), 5 NMI (in), 6 VPP (power), 7 ~{RESET} (in), 8 PB7 (io), 9 PB6 (io), 10 PB5 (io), 11 PB4 (io), 12 PB3 (io), 13 PB2 (io), 14 PB1 (io), 15 PB0 (io), 16 PA3/20mA SINK (io), 17 PA2/20mA SINK (io), 18 PA1/20mA SINK (io), 19 PA0/20mA SINK (io), 20 VSS (power)

## ST62T08M6/HWD
designator U?
8-Bit OTP MCU; Published: 24-Aug-2001; LatestRevisionDate: 13-Apr-2006; LatestRevisionNote: IPC-7351 Footprint Added.; DatasheetVersion: Oct-1996; PackageVersion: Jul-2001; PackageReference: SO20; Publisher: Altium Limited; PackageDescription: 20-Pin Plastic Small Outline Integrated Circuit 1.27 mm Pitch; Code_JEDEC: MS-013-AC; Code_IPC: SOIC127P1030-20; ComponentLink1Description: Manufacturer Link; ComponentLink1URL: http://www.st.com/
footprint SO20_N (SOIC, 20-Leads, Body 12.8x7.5mm, Pitch 1.27mm, IPC Medium Density)
footprint SO20_L (SOIC, 20-Leads, Body 12.8x7.5mm, Pitch 1.27mm, IPC High Density)
footprint SO20_M (SOIC, 20-Leads, Body 12.8x7.5mm, Pitch 1.27mm, IPC Low Density)
3D model SO20 (20-Pin Plastic Small Outline Integrated Circuit 1.27 mm Pitch)
pins: 1 VDD (power), 2 TIM (io), 3 OSCI (in), 4 OSCO (out), 5 NMI (in), 6 TST/VPP (in), 7 ~{RST} (in), 8 PB7 (io), 9 PB6 (io), 10 PB5 (io), 11 PB4 (io), 12 PB3 (io), 13 PB2 (io), 14 PB1 (io), 15 PB0 (io), 16 PA3 (io), 17 PA2 (io), 18 PA1 (io), 19 PA0 (io), 20 GND (power)

## ST62T08M6/SWD
designator U?
8-Bit OTP MCU; Published: 24-Aug-2001; LatestRevisionDate: 13-Apr-2006; LatestRevisionNote: IPC-7351 Footprint Added.; DatasheetVersion: Oct-1996; PackageVersion: Jul-2001; PackageReference: SO20; Publisher: Altium Limited; PackageDescription: 20-Pin Plastic Small Outline Integrated Circuit 1.27 mm Pitch; Code_JEDEC: MS-013-AC; Code_IPC: SOIC127P1030-20; ComponentLink1Description: Manufacturer Link; ComponentLink1URL: http://www.st.com/
footprint SO20_N (SOIC, 20-Leads, Body 12.8x7.5mm, Pitch 1.27mm, IPC Medium Density)
footprint SO20_L (SOIC, 20-Leads, Body 12.8x7.5mm, Pitch 1.27mm, IPC High Density)
footprint SO20_M (SOIC, 20-Leads, Body 12.8x7.5mm, Pitch 1.27mm, IPC Low Density)
3D model SO20 (20-Pin Plastic Small Outline Integrated Circuit 1.27 mm Pitch)
pins: 1 VDD (power), 2 TIM (io), 3 OSCI (in), 4 OSCO (out), 5 NMI (in), 6 TST/VPP (in), 7 ~{RST} (in), 8 PB7 (io), 9 PB6 (io), 10 PB5 (io), 11 PB4 (io), 12 PB3 (io), 13 PB2 (io), 14 PB1 (io), 15 PB0 (io), 16 PA3 (io), 17 PA2 (io), 18 PA1 (io), 19 PA0 (io), 20 GND (power)

## ST62T09B6/HWD
designator U?
8-Bit OTP MCU with A/D Converter; Published: 24-Aug-2001; LatestRevisionDate: 06-Jun-2005; LatestRevisionNote: Stylized 3D Model Added.; DatasheetVersion: Oct-1996; PackageVersion: Jun-1998; PackageReference: DIP20; Publisher: Altium Limited; PackageDescription: DIP; 20 Leads; Row Spacing 7.62 mm; Pitch 2.54 mm; Code_JEDEC: MS-015-AE; ComponentLink1Description: Manufacturer Link; ComponentLink1URL: http://www.st.com/
footprint DIP20 (DIP; 20 Leads; Row Spacing 7.62 mm; Pitch 2.54 mm)
3D model DIP20 (DIP; 20 Leads; Row Spacing 7.62 mm; Pitch 2.54 mm)
pins: 1 VDD (power), 2 TIM (io), 3 OSCI (in), 4 OSCO (out), 5 NMI (in), 6 TST/VPP (in), 7 ~{RST} (in), 8 PB7/AIN (io), 9 PB6/AIN (io), 10 PB5/AIN (io), 11 PB4/AIN (io), 12 PB3 (io), 13 PB2 (io), 14 PB1 (io), 15 PB0 (io), 16 PA3 (io), 17 PA2 (io), 18 PA1 (io), 19 PA0 (io), 20 GND (power)

## ST62T09B6/SWD
designator U?
8-Bit OTP MCU with A/D Converter; Published: 24-Aug-2001; LatestRevisionDate: 06-Jun-2005; LatestRevisionNote: Stylized 3D Model Added.; DatasheetVersion: Oct-1996; PackageVersion: Jun-1998; PackageReference: DIP20; Publisher: Altium Limited; PackageDescription: DIP; 20 Leads; Row Spacing 7.62 mm; Pitch 2.54 mm; Code_JEDEC: MS-015-AE; ComponentLink1Description: Manufacturer Link; ComponentLink1URL: http://www.st.com/
footprint DIP20 (DIP; 20 Leads; Row Spacing 7.62 mm; Pitch 2.54 mm)
3D model DIP20 (DIP; 20 Leads; Row Spacing 7.62 mm; Pitch 2.54 mm)
pins: 1 VDD (power), 2 TIM (io), 3 OSCI (in), 4 OSCO (out), 5 NMI (in), 6 TST/VPP (in), 7 ~{RST} (in), 8 PB7/AIN (io), 9 PB6/AIN (io), 10 PB5/AIN (io), 11 PB4/AIN (io), 12 PB3 (io), 13 PB2 (io), 14 PB1 (io), 15 PB0 (io), 16 PA3 (io), 17 PA2 (io), 18 PA1 (io), 19 PA0 (io), 20 GND (power)

## ST62T09CB6
designator U?
8-Bit OTP MCU with A/D Converter, Two Timers, Oscillator Safeguard and Safe Reset, 20-Pin PDIP, Industrial; Published: 26-May-2004; LatestRevisionDate: 06-Jun-2005; LatestRevisionNote: Stylized 3D Model Added.; DatasheetVersion: rev3.3, Oct-2003; PackageVersion: Jul-2003; PackageReference: PDIP20; Publisher: Altium Limited; PackageDescription: DIP; 20 Leads; Row Spacing 7.62 mm; Pitch 2.54 mm; Code_JEDEC: MS-001-AD; ComponentLink1Description: Manufacturer Link; ComponentLink1URL: http://www.st.com/; ComponentLink2Description: Datasheet; ComponentLink2URL: http://www.st.com/stonline/products/literature/ds/2349/st6209c.pdf
footprint PDIP20 (DIP; 20 Leads; Row Spacing 7.62 mm; Pitch 2.54 mm)
3D model PDIP20 (DIP; 20 Leads; Row Spacing 7.62 mm; Pitch 2.54 mm)
pins: 1 VDD (power), 2 TIMER (io), 3 OSCIN (in), 4 OSCOUT (out), 5 NMI (in), 6 VPP (power), 7 ~{RESET} (in), 8 PB7/Ain (io), 9 PB6/Ain (io), 10 PB5/Ain (io), 11 PB4/Ain (io), 12 PB3 (io), 13 PB2 (io), 14 PB1 (io), 15 PB0 (io), 16 PA3/20mA SINK (io), 17 PA2/20mA SINK (io), 18 PA1/20mA SINK (io), 19 PA0/20mA SINK (io), 20 VSS (power)

## ST62T09CM6
designator U?
8-Bit OTP MCU with A/D Converter, Two Timers, Oscillator Safeguard and Safe Reset, 20-Pin SOIC, Industrial; Published: 26-May-2004; LatestRevisionDate: 13-Apr-2006; LatestRevisionNote: IPC-7351 Footprint Added.; DatasheetVersion: rev3.3, Oct-2003; PackageVersion: Jul-2001; PackageReference: SO20; Publisher: Altium Limited; PackageDescription: 20-Pin Plastic Small Outline Integrated Circuit 1.27 mm Pitch; Code_JEDEC: MS-013-AC; Code_IPC: SOIC127P1030-20; ComponentLink1Description: Manufacturer Link; ComponentLink1URL: http://www.st.com/; ComponentLink2Description: Datasheet; ComponentLink2URL: http://www.st.com/stonline/products/literature/ds/2349/st6209c.pdf
footprint SO20_N (SOIC, 20-Leads, Body 12.8x7.5mm, Pitch 1.27mm, IPC Medium Density)
footprint SO20_L (SOIC, 20-Leads, Body 12.8x7.5mm, Pitch 1.27mm, IPC High Density)
footprint SO20_M (SOIC, 20-Leads, Body 12.8x7.5mm, Pitch 1.27mm, IPC Low Density)
3D model SO20 (20-Pin Plastic Small Outline Integrated Circuit 1.27 mm Pitch)
pins: 1 VDD (power), 2 TIMER (io), 3 OSCIN (in), 4 OSCOUT (out), 5 NMI (in), 6 VPP (power), 7 ~{RESET} (in), 8 PB7/Ain (io), 9 PB6/Ain (io), 10 PB5/Ain (io), 11 PB4/Ain (io), 12 PB3 (io), 13 PB2 (io), 14 PB1 (io), 15 PB0 (io), 16 PA3/20mA SINK (io), 17 PA2/20mA SINK (io), 18 PA1/20mA SINK (io), 19 PA0/20mA SINK (io), 20 VSS (power)

## ST62T09M6/HWD
designator U?
8-Bit OTP MCU with A/D Converter; Published: 24-Aug-2001; LatestRevisionDate: 13-Apr-2006; LatestRevisionNote: IPC-7351 Footprint Added.; DatasheetVersion: Oct-1996; PackageVersion: Jul-2001; PackageReference: SO20; Publisher: Altium Limited; PackageDescription: 20-Pin Plastic Small Outline Integrated Circuit 1.27 mm Pitch; Code_JEDEC: MS-013-AC; Code_IPC: SOIC127P1030-20; ComponentLink1Description: Manufacturer Link; ComponentLink1URL: http://www.st.com/
footprint SO20_N (SOIC, 20-Leads, Body 12.8x7.5mm, Pitch 1.27mm, IPC Medium Density)
footprint SO20_L (SOIC, 20-Leads, Body 12.8x7.5mm, Pitch 1.27mm, IPC High Density)
footprint SO20_M (SOIC, 20-Leads, Body 12.8x7.5mm, Pitch 1.27mm, IPC Low Density)
3D model SO20 (20-Pin Plastic Small Outline Integrated Circuit 1.27 mm Pitch)
pins: 1 VDD (power), 2 TIM (io), 3 OSCI (in), 4 OSCO (out), 5 NMI (in), 6 TST/VPP (in), 7 ~{RST} (in), 8 PB7/AIN (io), 9 PB6/AIN (io), 10 PB5/AIN (io), 11 PB4/AIN (io), 12 PB3 (io), 13 PB2 (io), 14 PB1 (io), 15 PB0 (io), 16 PA3 (io), 17 PA2 (io), 18 PA1 (io), 19 PA0 (io), 20 GND (power)

## ST62T09M6/SWD
designator U?
8-Bit OTP MCU with A/D Converter; Published: 24-Aug-2001; LatestRevisionDate: 13-Apr-2006; LatestRevisionNote: IPC-7351 Footprint Added.; DatasheetVersion: Oct-1996; PackageVersion: Jul-2001; PackageReference: SO20; Publisher: Altium Limited; PackageDescription: 20-Pin Plastic Small Outline Integrated Circuit 1.27 mm Pitch; Code_JEDEC: MS-013-AC; Code_IPC: SOIC127P1030-20; ComponentLink1Description: Manufacturer Link; ComponentLink1URL: http://www.st.com/
footprint SO20_N (SOIC, 20-Leads, Body 12.8x7.5mm, Pitch 1.27mm, IPC Medium Density)
footprint SO20_L (SOIC, 20-Leads, Body 12.8x7.5mm, Pitch 1.27mm, IPC High Density)
footprint SO20_M (SOIC, 20-Leads, Body 12.8x7.5mm, Pitch 1.27mm, IPC Low Density)
3D model SO20 (20-Pin Plastic Small Outline Integrated Circuit 1.27 mm Pitch)
pins: 1 VDD (power), 2 TIM (io), 3 OSCI (in), 4 OSCO (out), 5 NMI (in), 6 TST/VPP (in), 7 ~{RST} (in), 8 PB7/AIN (io), 9 PB6/AIN (io), 10 PB5/AIN (io), 11 PB4/AIN (io), 12 PB3 (io), 13 PB2 (io), 14 PB1 (io), 15 PB0 (io), 16 PA3 (io), 17 PA2 (io), 18 PA1 (io), 19 PA0 (io), 20 GND (power)

## ST62T10B6/HWD
designator U?
8-Bit OTP MCU with A/D Converter; Published: 24-Aug-2001; LatestRevisionDate: 06-Jun-2005; LatestRevisionNote: Stylized 3D Model Added.; DatasheetVersion: Oct-1996; PackageVersion: Jun-1998; PackageReference: DIP20; Publisher: Altium Limited; PackageDescription: DIP; 20 Leads; Row Spacing 7.62 mm; Pitch 2.54 mm; Code_JEDEC: MS-015-AE; ComponentLink1Description: Manufacturer Link; ComponentLink1URL: http://www.st.com/
footprint DIP20 (DIP; 20 Leads; Row Spacing 7.62 mm; Pitch 2.54 mm)
3D model DIP20 (DIP; 20 Leads; Row Spacing 7.62 mm; Pitch 2.54 mm)
pins: 1 VDD (power), 2 TIM (io), 3 OSCI (in), 4 OSCO (out), 5 NMI (in), 6 TST/VPP (in), 7 ~{RST} (in), 8 PB7/AIN (io), 9 PB6/AIN (io), 10 PB5/AIN (io), 11 PB4/AIN (io), 12 PB3/AIN (io), 13 PB2/AIN (io), 14 PB1/AIN (io), 15 PB0/AIN (io), 16 PA3 (io), 17 PA2 (io), 18 PA1 (io), 19 PA0 (io), 20 GND (power)

## ST62T10B6/SWD
designator U?
8-Bit OTP MCU with A/D Converter; Published: 24-Aug-2001; LatestRevisionDate: 06-Jun-2005; LatestRevisionNote: Stylized 3D Model Added.; DatasheetVersion: Oct-1996; PackageVersion: Jun-1998; PackageReference: DIP20; Publisher: Altium Limited; PackageDescription: DIP; 20 Leads; Row Spacing 7.62 mm; Pitch 2.54 mm; Code_JEDEC: MS-015-AE; ComponentLink1Description: Manufacturer Link; ComponentLink1URL: http://www.st.com/
footprint DIP20 (DIP; 20 Leads; Row Spacing 7.62 mm; Pitch 2.54 mm)
3D model DIP20 (DIP; 20 Leads; Row Spacing 7.62 mm; Pitch 2.54 mm)
pins: 1 VDD (power), 2 TIM (io), 3 OSCI (in), 4 OSCO (out), 5 NMI (in), 6 TST/VPP (in), 7 ~{RST} (in), 8 PB7/AIN (io), 9 PB6/AIN (io), 10 PB5/AIN (io), 11 PB4/AIN (io), 12 PB3/AIN (io), 13 PB2/AIN (io), 14 PB1/AIN (io), 15 PB0/AIN (io), 16 PA3 (io), 17 PA2 (io), 18 PA1 (io), 19 PA0 (io), 20 GND (power)

## ST62T10CB6
designator U?
8-Bit OTP MCU with A/D Converter, Two Timers, Oscillator Safeguard and Safe Reset, 20-Pin PDIP, Industrial; Published: 26-May-2004; LatestRevisionDate: 06-Jun-2005; LatestRevisionNote: Stylized 3D Model Added.; DatasheetVersion: rev3.3, Oct-2003; PackageVersion: Jul-2003; PackageReference: PDIP20; Publisher: Altium Limited; PackageDescription: DIP; 20 Leads; Row Spacing 7.62 mm; Pitch 2.54 mm; Code_JEDEC: MS-001-AD; ComponentLink1Description: Manufacturer Link; ComponentLink1URL: http://www.st.com/; ComponentLink2Description: Datasheet; ComponentLink2URL: http://www.st.com/stonline/products/literature/ds/2349/st6210c.pdf
footprint PDIP20 (DIP; 20 Leads; Row Spacing 7.62 mm; Pitch 2.54 mm)
3D model PDIP20 (DIP; 20 Leads; Row Spacing 7.62 mm; Pitch 2.54 mm)
pins: 1 VDD (power), 2 TIMER (io), 3 OSCIN (in), 4 OSCOUT (out), 5 NMI (in), 6 VPP (power), 7 ~{RESET} (in), 8 PB7/Ain (io), 9 PB6/Ain (io), 10 PB5/Ain (io), 11 PB4/Ain (io), 12 PB3/Ain (io), 13 PB2/Ain (io), 14 PB1/Ain (io), 15 PB0/Ain (io), 16 PA3/20mA SINK (io), 17 PA2/20mA SINK (io), 18 PA1/20mA SINK (io), 19 PA0/20mA SINK (io), 20 VSS (power)

## ST62T10CM6
designator U?
8-Bit OTP MCU with A/D Converter, Two Timers, Oscillator Safeguard and Safe Reset, 20-Pin SOIC, Industrial; Published: 26-May-2004; LatestRevisionDate: 13-Apr-2006; LatestRevisionNote: IPC-7351 Footprint Added.; DatasheetVersion: rev3.3, Oct-2003; PackageVersion: Jul-2001; PackageReference: SO20; Publisher: Altium Limited; PackageDescription: 20-Pin Plastic Small Outline Integrated Circuit 1.27 mm Pitch; Code_JEDEC: MS-013-AC; Code_IPC: SOIC127P1030-20; ComponentLink1Description: Manufacturer Link; ComponentLink1URL: http://www.st.com/; ComponentLink2Description: Datasheet; ComponentLink2URL: http://www.st.com/stonline/products/literature/ds/2349/st6210c.pdf
footprint SO20_N (SOIC, 20-Leads, Body 12.8x7.5mm, Pitch 1.27mm, IPC Medium Density)
footprint SO20_L (SOIC, 20-Leads, Body 12.8x7.5mm, Pitch 1.27mm, IPC High Density)
footprint SO20_M (SOIC, 20-Leads, Body 12.8x7.5mm, Pitch 1.27mm, IPC Low Density)
3D model SO20 (20-Pin Plastic Small Outline Integrated Circuit 1.27 mm Pitch)
pins: 1 VDD (power), 2 TIMER (io), 3 OSCIN (in), 4 OSCOUT (out), 5 NMI (in), 6 VPP (power), 7 ~{RESET} (in), 8 PB7/Ain (io), 9 PB6/Ain (io), 10 PB5/Ain (io), 11 PB4/Ain (io), 12 PB3/Ain (io), 13 PB2/Ain (io), 14 PB1/Ain (io), 15 PB0/Ain (io), 16 PA3/20mA SINK (io), 17 PA2/20mA SINK (io), 18 PA1/20mA SINK (io), 19 PA0/20mA SINK (io), 20 VSS (power)

## ST62T10M6/HWD
designator U?
8-Bit OTP MCU with A/D Converter; Published: 24-Aug-2001; LatestRevisionDate: 13-Apr-2006; LatestRevisionNote: IPC-7351 Footprint Added.; DatasheetVersion: Oct-1996; PackageVersion: Jul-2001; PackageReference: SO20; Publisher: Altium Limited; PackageDescription: 20-Pin Plastic Small Outline Integrated Circuit 1.27 mm Pitch; Code_JEDEC: MS-013-AC; Code_IPC: SOIC127P1030-20; ComponentLink1Description: Manufacturer Link; ComponentLink1URL: http://www.st.com/
footprint SO20_N (SOIC, 20-Leads, Body 12.8x7.5mm, Pitch 1.27mm, IPC Medium Density)
footprint SO20_L (SOIC, 20-Leads, Body 12.8x7.5mm, Pitch 1.27mm, IPC High Density)
footprint SO20_M (SOIC, 20-Leads, Body 12.8x7.5mm, Pitch 1.27mm, IPC Low Density)
3D model SO20 (20-Pin Plastic Small Outline Integrated Circuit 1.27 mm Pitch)
pins: 1 VDD (power), 2 TIM (io), 3 OSCI (in), 4 OSCO (out), 5 NMI (in), 6 TST/VPP (in), 7 ~{RST} (in), 8 PB7/AIN (io), 9 PB6/AIN (io), 10 PB5/AIN (io), 11 PB4/AIN (io), 12 PB3/AIN (io), 13 PB2/AIN (io), 14 PB1/AIN (io), 15 PB0/AIN (io), 16 PA3 (io), 17 PA2 (io), 18 PA1 (io), 19 PA0 (io), 20 GND (power)

## ST62T10M6/SWD
designator U?
8-Bit OTP MCU with A/D Converter; Published: 24-Aug-2001; LatestRevisionDate: 13-Apr-2006; LatestRevisionNote: IPC-7351 Footprint Added.; DatasheetVersion: Oct-1996; PackageVersion: Jul-2001; PackageReference: SO20; Publisher: Altium Limited; PackageDescription: 20-Pin Plastic Small Outline Integrated Circuit 1.27 mm Pitch; Code_JEDEC: MS-013-AC; Code_IPC: SOIC127P1030-20; ComponentLink1Description: Manufacturer Link; ComponentLink1URL: http://www.st.com/
footprint SO20_N (SOIC, 20-Leads, Body 12.8x7.5mm, Pitch 1.27mm, IPC Medium Density)
footprint SO20_L (SOIC, 20-Leads, Body 12.8x7.5mm, Pitch 1.27mm, IPC High Density)
footprint SO20_M (SOIC, 20-Leads, Body 12.8x7.5mm, Pitch 1.27mm, IPC Low Density)
3D model SO20 (20-Pin Plastic Small Outline Integrated Circuit 1.27 mm Pitch)
pins: 1 VDD (power), 2 TIM (io), 3 OSCI (in), 4 OSCO (out), 5 NMI (in), 6 TST/VPP (in), 7 ~{RST} (in), 8 PB7/AIN (io), 9 PB6/AIN (io), 10 PB5/AIN (io), 11 PB4/AIN (io), 12 PB3/AIN (io), 13 PB2/AIN (io), 14 PB1/AIN (io), 15 PB0/AIN (io), 16 PA3 (io), 17 PA2 (io), 18 PA1 (io), 19 PA0 (io), 20 GND (power)

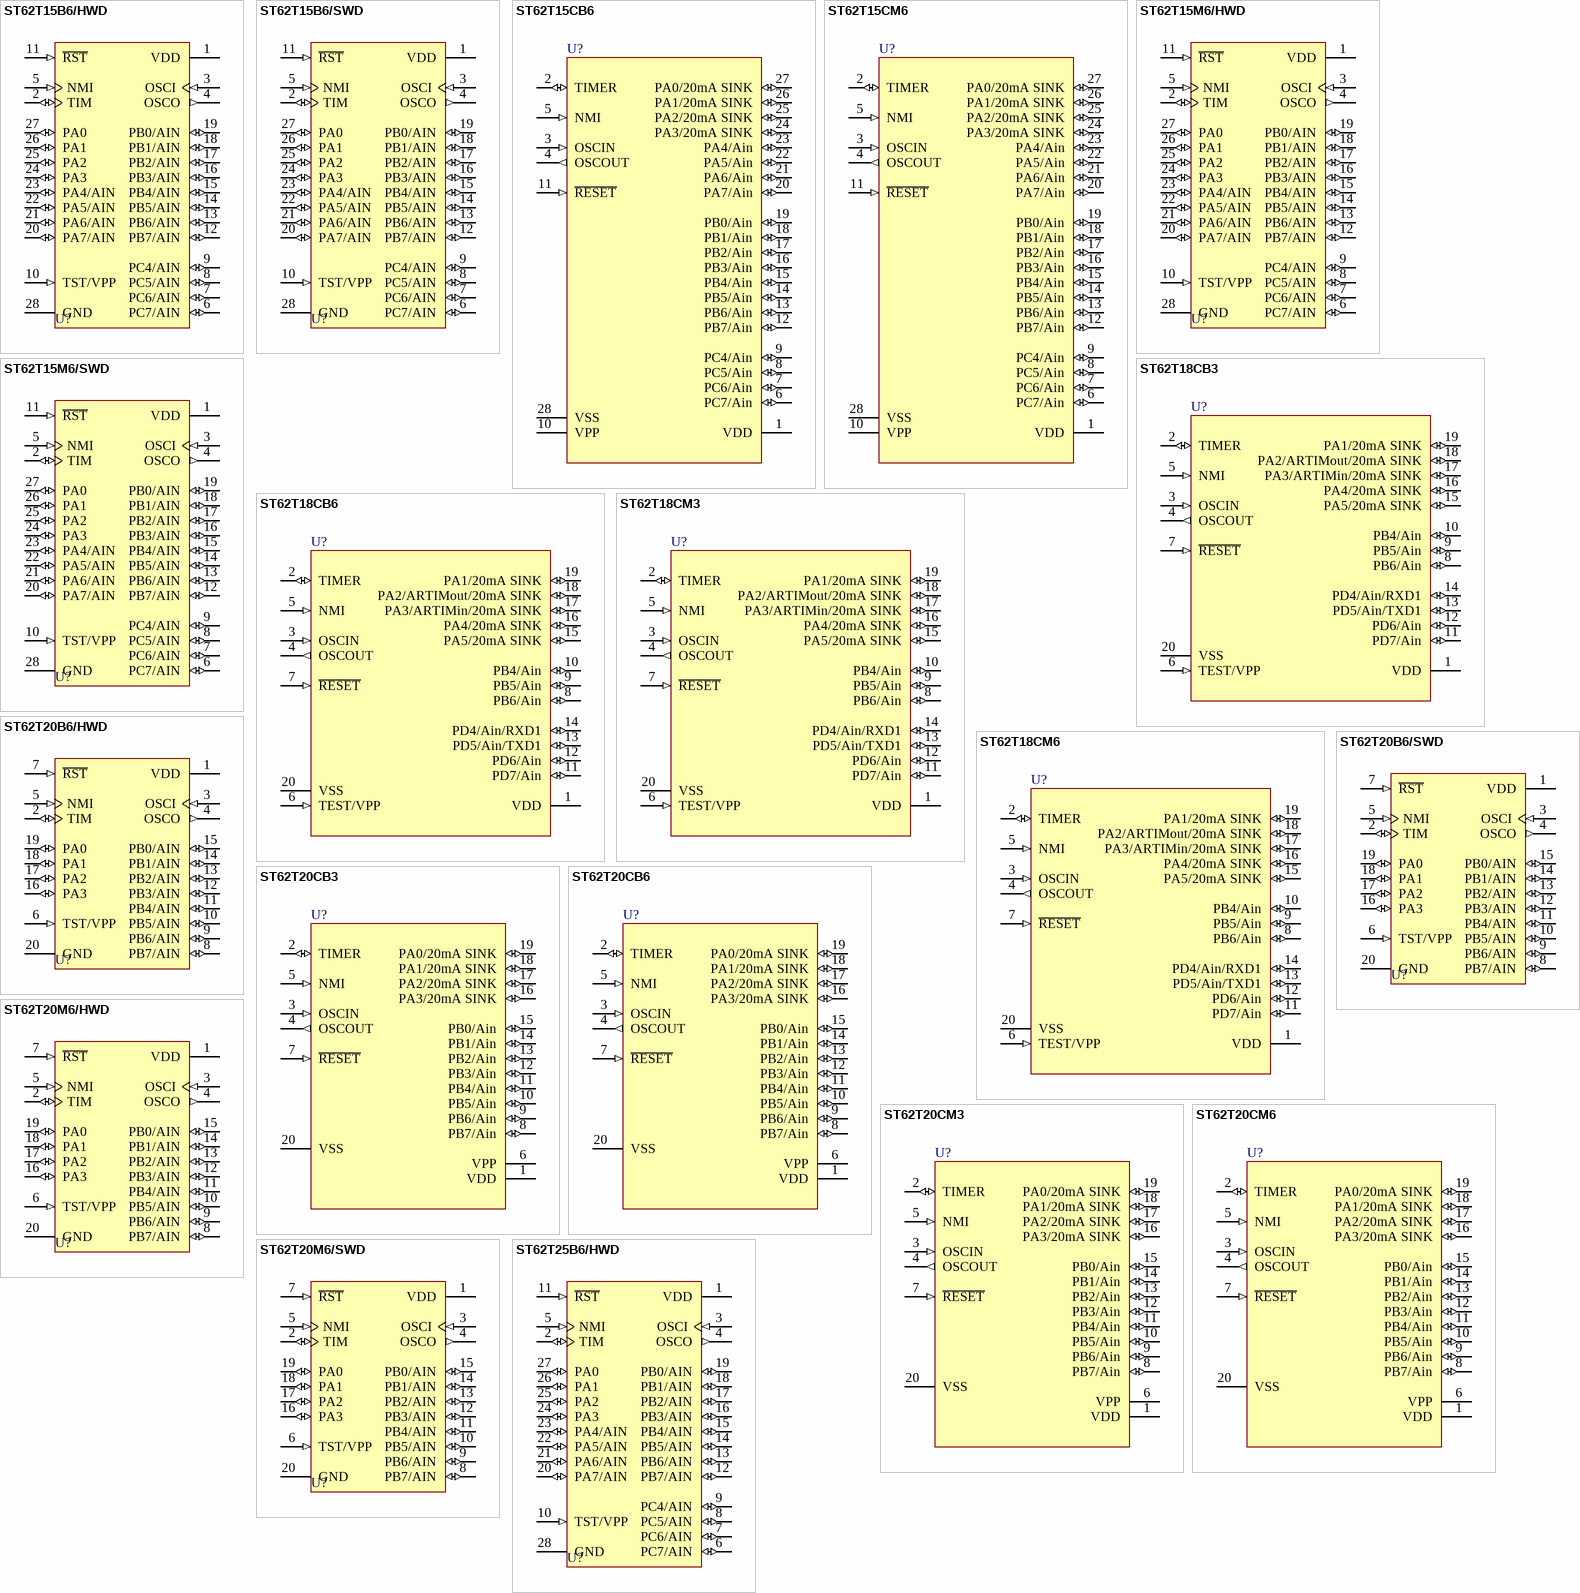
[diagram p15: symbols ST62T15B6/HWD to ST62T25B6/HWD]

## ST62T15B6/HWD
designator U?
8-Bit OTP MCU with A/D Converter; Published: 24-Aug-2001; LatestRevisionDate: 06-Jun-2005; LatestRevisionNote: Stylized 3D Model Added.; DatasheetVersion: Oct-1996; PackageVersion: Jan-2003; PackageReference: PDIP28; Publisher: Altium Limited; PackageDescription: DIP; 28 Leads; Row Spacing 15.24 mm; Pitch 2.54 mm; ComponentLink1Description: Manufacturer Link; ComponentLink1URL: http://www.st.com/
footprint PDIP28 (DIP; 28 Leads; Row Spacing 15.24 mm; Pitch 2.54 mm)
3D model PDIP28 (DIP; 28 Leads; Row Spacing 15.24 mm; Pitch 2.54 mm)
pins: 1 VDD (power), 2 TIM (io), 3 OSCI (in), 4 OSCO (out), 5 NMI (in), 6 PC7/AIN (io), 7 PC6/AIN (io), 8 PC5/AIN (io), 9 PC4/AIN (io), 10 TST/VPP (in), 11 ~{RST} (in), 12 PB7/AIN (io), 13 PB6/AIN (io), 14 PB5/AIN (io), 15 PB4/AIN (io), 16 PB3/AIN (io), 17 PB2/AIN (io), 18 PB1/AIN (io), 19 PB0/AIN (io), 20 PA7/AIN (io), 21 PA6/AIN (io), 22 PA5/AIN (io), 23 PA4/AIN (io), 24 PA3 (io), 25 PA2 (io), 26 PA1 (io), 27 PA0 (io), 28 GND (power)

## ST62T15B6/SWD
designator U?
8-Bit OTP MCU with A/D Converter; Published: 24-Aug-2001; LatestRevisionDate: 06-Jun-2005; LatestRevisionNote: Stylized 3D Model Added.; DatasheetVersion: Oct-1996; PackageVersion: Jan-2003; PackageReference: PDIP28; Publisher: Altium Limited; PackageDescription: DIP; 28 Leads; Row Spacing 15.24 mm; Pitch 2.54 mm; ComponentLink1Description: Manufacturer Link; ComponentLink1URL: http://www.st.com/
footprint PDIP28 (DIP; 28 Leads; Row Spacing 15.24 mm; Pitch 2.54 mm)
3D model PDIP28 (DIP; 28 Leads; Row Spacing 15.24 mm; Pitch 2.54 mm)
pins: 1 VDD (power), 2 TIM (io), 3 OSCI (in), 4 OSCO (out), 5 NMI (in), 6 PC7/AIN (io), 7 PC6/AIN (io), 8 PC5/AIN (io), 9 PC4/AIN (io), 10 TST/VPP (in), 11 ~{RST} (in), 12 PB7/AIN (io), 13 PB6/AIN (io), 14 PB5/AIN (io), 15 PB4/AIN (io), 16 PB3/AIN (io), 17 PB2/AIN (io), 18 PB1/AIN (io), 19 PB0/AIN (io), 20 PA7/AIN (io), 21 PA6/AIN (io), 22 PA5/AIN (io), 23 PA4/AIN (io), 24 PA3 (io), 25 PA2 (io), 26 PA1 (io), 27 PA0 (io), 28 GND (power)

## ST62T15CB6
designator U?
8-Bit OTP MCU with A/D Converter, Two Timers, Oscillator Safeguard and Safe Reset, 28-Pin PDIP, Industrial; Published: 26-May-2004; LatestRevisionDate: 06-Jun-2005; LatestRevisionNote: Stylized 3D Model Added.; DatasheetVersion: rev3.3, Oct-2003; PackageVersion: Oct-2003; PackageReference: DIP28; Publisher: Altium Limited; PackageDescription: DIP; 28 Leads; Row Spacing 15.24 mm; Pitch 2.54 mm; Code_JEDEC: MS-011-AB; ComponentLink1Description: Manufacturer Link; ComponentLink1URL: http://www.st.com/; ComponentLink2Description: Datasheet; ComponentLink2URL: http://www.st.com/stonline/products/literature/ds/5266/st6215c.pdf
footprint DIP28 (DIP; 28 Leads; Row Spacing 15.24 mm; Pitch 2.54 mm)
3D model DIP28 (DIP; 28 Leads; Row Spacing 15.24 mm; Pitch 2.54 mm)
pins: 1 VDD (power), 2 TIMER (io), 3 OSCIN (in), 4 OSCOUT (out), 5 NMI (in), 6 PC7/Ain (io), 7 PC6/Ain (io), 8 PC5/Ain (io), 9 PC4/Ain (io), 10 VPP (power), 11 ~{RESET} (in), 12 PB7/Ain (io), 13 PB6/Ain (io), 14 PB5/Ain (io), 15 PB4/Ain (io), 16 PB3/Ain (io), 17 PB2/Ain (io), 18 PB1/Ain (io), 19 PB0/Ain (io), 20 PA7/Ain (io), 21 PA6/Ain (io), 22 PA5/Ain (io), 23 PA4/Ain (io), 24 PA3/20mA SINK (io), 25 PA2/20mA SINK (io), 26 PA1/20mA SINK (io), 27 PA0/20mA SINK (io), 28 VSS (power)